# Altium footprint library PCB1.PcbLib: 55 footprints (part 3 of 4)
Each footprint in its own frame and in the unit in brackets; x right, y up, seen from the top. Pads: shape width x height; smd on the part's side, far side on the other; paste and mask are expansions set on the pad; w line width, h text height; cw(c..) or ccw(c..) is an arc to the next point about the centre after c.
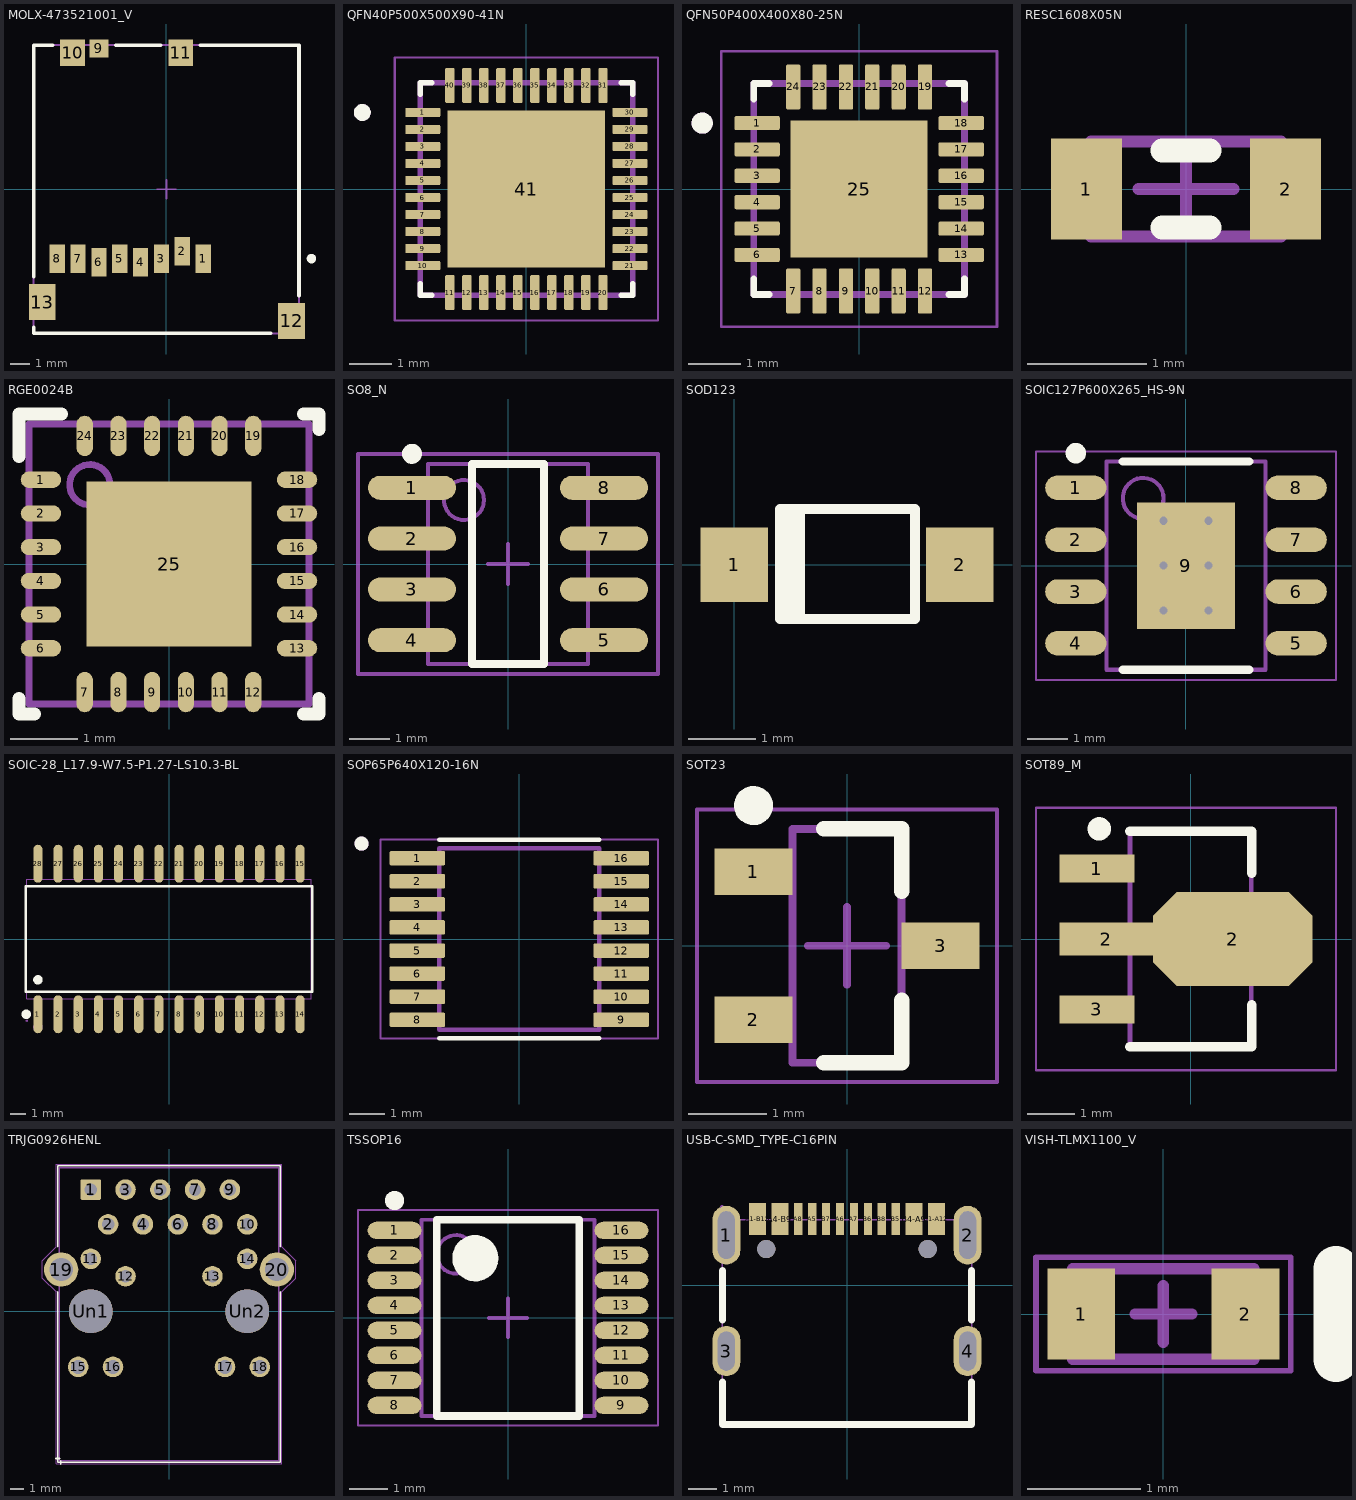
[diagram p2: the footprints below, top view; thin cyan lines are the x and y axes]

## MOLX-473521001_V [mm] "SMD, 8-Leads, Body 15.2x14mm, Pitch 1.1mm"
height 1.88
pads (13):
  rect 0.8x1.5 smd: 1(1.94,-3.66) 2(0.84,-3.26) 3(-0.26,-3.66) 4(-1.36,-3.86) 5(-2.46,-3.66) 6(-3.56,-3.86) 7(-4.66,-3.66) 8(-5.76,-3.66)
  rect 1x0.95 smd: 9(-3.56,7.425)
  rect 1.3x1.4 smd: 10(-4.95,7.2) 11(0.75,7.2)
  rect 1.4x1.9 smd: 12(6.6,-6.95) 13(-6.55,-5.95)
Top Overlay:
  circle w0.25: c7.65,-3.66 r0.125
  lines w0.2: -7,-7.3 -7,-7.6 5.5,-7.6 ; -7,-4.6 -7,7.6 -6,7.6 ; -2.66,7.6 -0.3,7.6 ; 1.8,7.6 7,7.6 7,-5.6
Mechanical 13:
  lines w0.1: -7,-7.6 -7,7.6 7,7.6 7,-7.6 -7,-7.6
Mechanical 15:
  lines w0.1: -0.5,0 0.5,0 ; 0,-0.5 0,0.5
3D body "473521001.stp": height 1.85, standoff -0.03, extent -7.05,-7.6 7.05,7.6

## QFN40P500X500X90-41N [mm]
height 0.9
pads (41):
  rrect25% 0.82x0.22 smd mask+0.05: 1(-2.435,1.8) 2(-2.435,1.4) 3(-2.435,1) 4(-2.435,0.6) 5(-2.435,0.2) 6(-2.435,-0.2) 7(-2.435,-0.6) 8(-2.435,-1) 9(-2.435,-1.4) 10(-2.435,-1.8) 21(2.435,-1.8) 22(2.435,-1.4) 23(2.435,-1) 24(2.435,-0.6) 25(2.435,-0.2) 26(2.435,0.2) 27(2.435,0.6) 28(2.435,1) 29(2.435,1.4) 30(2.435,1.8)
  rrect25% 0.22x0.82 smd mask+0.05: 11(-1.8,-2.435) 12(-1.4,-2.435) 13(-1,-2.435) 14(-0.6,-2.435) 15(-0.2,-2.435) 16(0.2,-2.435) 17(0.6,-2.435) 18(1,-2.435) 19(1.4,-2.435) 20(1.8,-2.435) 31(1.8,2.435) 32(1.4,2.435) 33(1,2.435) 34(0.6,2.435) 35(0.2,2.435) 36(-0.2,2.435) 37(-0.6,2.435) 38(-1,2.435) 39(-1.4,2.435) 40(-1.8,2.435)
  rect 3.7x3.7 smd paste-3 mask+0.05: 41(0,0)
Top Overlay:
  circle w0.2: c-3.86,1.8 r0.1
  lines w0.127: -2.5,-2.23 -2.5,-2.5 -2.23,-2.5 ; -2.5,2.23 -2.5,2.5 -2.23,2.5 ; 2.23,-2.5 2.5,-2.5 2.5,-2.23 ; 2.23,2.5 2.5,2.5 2.5,2.23
Top Paste:
  region: 1.395,-1.395 0.225,-1.395 0.225,-0.225 1.395,-0.225
  region: -0.225,-1.395 -1.395,-1.395 -1.395,-0.225 -0.225,-0.225
  region: 1.395,0.225 0.225,0.225 0.225,1.395 1.395,1.395
  region: -0.225,0.225 -1.395,0.225 -1.395,1.395 -0.225,1.395
Mechanical 13:
  circle w0.2: c-3.86,1.8 r0.1
  lines w0.127: -2.5,-2.5 2.5,-2.5 2.5,2.5 -2.5,2.5 -2.5,-2.5
Mechanical 15:
  lines w0.05: -3.095,-3.095 3.095,-3.095 3.095,3.095 -3.095,3.095 -3.095,-3.095

## QFN50P400X400X80-25N [mm]
height 2.54
pads (25):
  rrect25% 0.86x0.27 smd: 1(-1.935,1.25) 2(-1.935,0.75) 3(-1.935,0.25) 4(-1.935,-0.25) 5(-1.935,-0.75) 6(-1.935,-1.25) 13(1.935,-1.25) 14(1.935,-0.75) 15(1.935,-0.25) 16(1.935,0.25) 17(1.935,0.75) 18(1.935,1.25)
  rrect25% 0.27x0.86 smd: 7(-1.25,-1.935) 8(-0.75,-1.935) 9(-0.25,-1.935) 10(0.25,-1.935) 11(0.75,-1.935) 12(1.25,-1.935) 19(1.25,1.935) 20(0.75,1.935) 21(0.25,1.935) 22(-0.25,1.935) 23(-0.75,1.935) 24(-1.25,1.935)
  rect 2.6x2.6 smd paste-2: 25(0,0)
Top Overlay:
  circle w0.2: c-2.975,1.25 r0.1
  lines w0.127: -2,-1.705 -2,-2 -1.705,-2 ; -2,1.705 -2,2 -1.705,2 ; 1.705,-2 2,-2 2,-1.705 ; 1.705,2 2,2 2,1.705
Top Paste:
  region: 0.82,-0.82 -0.82,-0.82 -0.82,0.82 0.82,0.82
Mechanical 13:
  circle w0.2: c-2.975,1.25 r0.1
  lines w0.127: -2,-2 2,-2 2,2 -2,2 -2,-2
Mechanical 15:
  lines w0.05: -2.615,-2.615 2.615,-2.615 2.615,2.615 -2.615,2.615 -2.615,-2.615
3D body "step_temp.STEP": height 0.8, standoff 0, extent -2,-2 2,2

## RESC1608X05N [mm] "Chip Resistor, 2-Leads, Body 1.60x0.80mm, IPC Medium Density"
height 0.5
pads (2):
  rect 0.6x0.85 smd: 1(-0.838,0) 2(0.838,0)
Top Overlay:
  lines w0.2: -0.2,-0.325 0.2,-0.325 ; -0.2,0.325 0.2,0.325
Mechanical 13:
  lines w0.1: -0.8,-0.4 -0.8,0.4 0.8,0.4 0.8,-0.4 -0.8,-0.4
Mechanical 15:
  lines w0.1: -0.4,0 0.4,0 ; 0,-0.4 0,0.4
3D body "RESC1608X05N.step": height 0.5, standoff 0, extent -0.8,-0.4 0.8,0.4

## RGE0024B [mm]
pads (25):
  oval 0.6x0.24 smd paste+0 mask+0.051: 1(-1.9,1.25) 2(-1.9,0.75) 3(-1.9,0.25) 4(-1.9,-0.25) 5(-1.9,-0.75) 6(-1.9,-1.25) 13(1.9,-1.25) 14(1.9,-0.75) 15(1.9,-0.25) 16(1.9,0.25) 17(1.9,0.75) 18(1.9,1.25)
  oval 0.24x0.6 smd paste+0 mask+0.051: 7(-1.25,-1.9) 8(-0.75,-1.9) 9(-0.25,-1.9) 10(0.25,-1.9) 11(0.75,-1.9) 12(1.25,-1.9) 19(1.25,1.9) 20(0.75,1.9) 21(0.25,1.9) 22(-0.25,1.9) 23(-0.75,1.9) 24(-1.25,1.9)
  rect 2.45x2.45 smd paste-1.225 mask+0.051: 25(0,0)
Top Overlay:
  lines w0.2: -2.225,-2 -2.225,-2.225 -2,-2.225 ; -2.225,1.6 -2.225,2.225 -1.6,2.225 ; 2,-2.225 2.225,-2.225 2.225,-2 ; 2,2.225 2.225,2.225 2.225,2
Top Paste:
  region: 0.1,1.184 0.1,0.1 1.184,0.1 1.184,1.184
  region: -0.1,0.1 -0.1,1.184 -1.184,1.184 -1.184,0.1
  region: -0.1,-1.184 -0.1,-0.1 -1.184,-0.1 -1.184,-1.184
  region: 0.1,-0.1 0.1,-1.184 1.184,-1.184 1.184,-0.1
Mechanical 13:
  circle w0.1: c-1.175,1.175 r0.3
  lines w0.1: -2.075,-2.075 -2.075,2.075 2.075,2.075 2.075,-2.075 -2.075,-2.075
  text ".Designator" at -1.854,-1.143 h1.27

## SO8_N [mm] "SOIC, 8-Leads, Body 4.9x3.9mm, Pitch 1.27mm, IPC Medium Density"
height 1.75
pads (8):
  oval 2.2x0.6 smd: 1(-2.4,1.905) 2(-2.4,0.635) 3(-2.4,-0.635) 4(-2.4,-1.905) 5(2.4,-1.905) 6(2.4,-0.635) 7(2.4,0.635) 8(2.4,1.905)
Top Overlay:
  circle w0.25: c-2.4,2.755 r0.125
  lines w0.2: -0.9,-2.5 -0.9,2.5 0.9,2.5 0.9,-2.5 -0.9,-2.5
Mechanical 13:
  circle w0.1: c-1.1,1.6 r0.5
  lines w0.1: -2,-2.5 -2,2.5 2,2.5 2,-2.5 -2,-2.5
Mechanical 15:
  lines w0.1: -0.5,0 0.5,0 ; 0,-0.5 0,0.5 ; -3.75,-2.75 -3.75,2.75 3.75,2.75 3.75,-2.75 -3.75,-2.75
3D body: height 1.75, standoff 0, extent -2,-2.5 2,2.5

## SOD123 [mm]
height 2.54
pads (2):
  rect 1x1.1 smd: 1(0,0) 2(3.34,0)
Top Overlay:
  lines w0.15: 0.726,-0.725 0.776,-0.725 ; 0.776,0.775 0.776,-0.625 0.851,-0.7 0.851,0.75 ; 0.976,-0.775 0.976,0.8 ; 0.676,-0.8 2.676,-0.8 2.676,0.825 0.676,0.825 0.676,-0.8
3D body "User Library-SOD-123.step": height 1.25, standoff 0, extent -0.178,-0.787 3.52,0.813

## SOIC127P600X265_HS-9N [mm] "SOIC, 8-Leads, Body 5.00x3.90mm, Pitch 1.27mm, Thermal Pad 3.10x2.40mm, IPC Medium Density"
height 2.65
pads (9):
  oval 1.5x0.6 smd: 1(-2.7,1.905) 2(-2.7,0.635) 3(-2.7,-0.635) 4(-2.7,-1.905) 5(2.7,-1.905) 6(2.7,-0.635) 7(2.7,0.635) 8(2.7,1.905)
  rect 2.4x3.1 smd: 9(0,0)
via 0.55,-1.1 diameter 0.5 hole 0.2
via -0.55,-1.1 diameter 0.5 hole 0.2
via 0.55,0 diameter 0.5 hole 0.2
via -0.55,0 diameter 0.5 hole 0.2
via 0.55,1.1 diameter 0.5 hole 0.2
via -0.55,1.1 diameter 0.5 hole 0.2
Top Overlay:
  circle w0.25: c-2.7,2.755 r0.125
  lines w0.2: -1.55,-2.55 1.55,-2.55 ; -1.55,2.55 1.55,2.55
Mechanical 13:
  circle w0.1: c-1.05,1.65 r0.5
  lines w0.1: -1.95,-2.55 1.95,-2.55 1.95,2.55 -1.95,2.55 -1.95,-2.55
Mechanical 15:
  lines w0.05: -3.675,-2.8 3.675,-2.8 3.675,2.8 -3.675,2.8 -3.675,-2.8
  lines w0.1: -0.5,0 0.5,0 ; 0,-0.5 0,0.5
3D body "SOIC127P600X265_HS-9N.step": height 2.65, standoff 0, extent -3,-2.55 3,2.55

## SOIC-28_L17.9-W7.5-P1.27-LS10.3-BL [mm]
pads (28):
  oval 0.574x2.388 smd: 1(-8.255,-4.744) 2(-6.985,-4.744) 3(-5.715,-4.744) 4(-4.445,-4.744) 5(-3.175,-4.744) 6(-1.905,-4.744) 7(-0.635,-4.744) 8(0.635,-4.744) 9(1.905,-4.744) 10(3.175,-4.744) 11(4.445,-4.744) 12(5.715,-4.744) 13(6.985,-4.744) 14(8.255,-4.744) 15(8.255,4.744) 16(6.985,4.744) 17(5.715,4.744) 18(4.445,4.744) 19(3.175,4.744) 20(1.905,4.744) 21(0.635,4.744) 22(-0.635,4.744) 23(-1.905,4.744) 24(-3.175,4.744) 25(-4.445,4.744) 26(-5.715,4.744) 27(-6.985,4.744) 28(-8.255,4.744)
Top Overlay:
  circle w0.3: c-8.255,-2.569 r0.15
  circle w0.3: c-8.994,-4.744 r0.15
  lines w0.152: -9.026,-3.321 -9.026,3.321 9.026,3.321 9.026,-3.321 -9.026,-3.321
Bottom Designator:
  circle w0.3: c-8.255,-5.55 r0.15
Mechanical 15:
  drawing of 61 lines, arcs and shapes, not listed

## SOP65P640X120-16N [mm]
pads (16):
  rrect25% 1.57x0.41 smd: 1(-2.87,2.275) 2(-2.87,1.625) 3(-2.87,0.975) 4(-2.87,0.325) 5(-2.87,-0.325) 6(-2.87,-0.975) 7(-2.87,-1.625) 8(-2.87,-2.275) 9(2.87,-2.275) 10(2.87,-1.625) 11(2.87,-0.975) 12(2.87,-0.325) 13(2.87,0.325) 14(2.87,0.975) 15(2.87,1.625) 16(2.87,2.275)
Top Overlay:
  circle w0.2: c-4.44,2.685 r0.1
  lines w0.127: -2.25,-2.8 2.25,-2.8 ; -2.25,2.8 2.25,2.8
Mechanical 13:
  circle w0.2: c-4.44,2.685 r0.1
  lines w0.127: -2.25,-2.55 2.25,-2.55 2.25,2.55 -2.25,2.55 -2.25,-2.55
Mechanical 15:
  lines w0.05: -3.905,-2.8 3.905,-2.8 3.905,2.8 -3.905,2.8 -3.905,-2.8
3D body "step_temp.STEP": height 0.6, standoff -0.6, extent -2.5,-3.2 2.5,3.2

## SOT23 [mm] "SOT23, 3-Leads, Body 2.90x2.45mm, Pitch 0.95mm, IPC Medium Density"
height 1.1
pads (3):
  rect 1x0.6 smd: 1(-1.2,0.95) 2(-1.2,-0.95) 3(1.2,0)
Top Overlay:
  circle w0.25: c-1.2,1.8 r0.125
  lines w0.2: -0.3,-1.5 0.7,-1.5 0.7,-0.7 ; -0.3,1.5 0.7,1.5 0.7,0.7
Mechanical 13:
  lines w0.1: -0.7,-1.5 0.7,-1.5 0.7,1.5 -0.7,1.5 -0.7,-1.5
Mechanical 15:
  lines w0.05: -1.925,-1.75 1.925,-1.75 1.925,1.75 -1.925,1.75 -1.925,-1.75
  lines w0.1: -0.5,0 0.5,0 ; 0,-0.5 0,0.5
3D body: height 1.1, standoff 0.05, extent -0.7,-1.5 0.7,1.5

## SOT89_M [mm] "SOT89, 3-Leads, Body 4.5x2.4 mm, Pitch 1.5mm, Lead Span 4.1mm, IPC Low Density"
height 1.61
pads (4):
  rect 1.6x0.6 smd: 1(-2,1.5) 3(-2,-1.5)
  rect 2x0.7 smd: 2(-1.8,0)
  oct 3.4x2 smd: 2(0.9,0)
Top Overlay:
  circle w0.25: c-1.95,2.35 r0.125
  lines w0.2: -1.3,-2.3 1.3,-2.3 1.3,-1.4 ; -1.3,2.3 1.3,2.3 1.3,1.4
Mechanical 13:
  lines w0.1: -1.295,-2.3 1.295,-2.3 1.295,2.3 -1.295,2.3 -1.295,-2.3
Mechanical 15:
  lines w0.05: -3.3,-2.8 3.1,-2.8 3.1,2.8 -3.3,2.8 -3.3,-2.8
  lines w0.1: -0.5,0 0.5,0 ; 0,-0.5 0,0.5
3D body: height 1.6, standoff 0, extent -1.295,-2.3 1.295,2.3

## TRJG0926HENL [mm]
pads (22):
  rrect17% 1.5x1.5 hole 0.9 paste-1.5: 1(-5.715,8.89)
  round 1.5 hole 0.9 paste-1.5: 2(-4.445,6.35) 3(-3.175,8.89) 4(-1.905,6.35) 5(-0.635,8.89) 6(0.635,6.35) 7(1.905,8.89) 8(3.175,6.35) 9(4.445,8.89) 10(5.715,6.35) 11(-5.715,3.83) 12(-3.175,2.56) 13(3.175,2.56) 14(5.715,3.83)
  round 1.5 hole 1.02 paste-1.5: 15(-6.63,-4.06) 16(-4.09,-4.06) 17(4.09,-4.06) 18(6.63,-4.06)
  round 2.5 hole 1.7 paste-2.5: 19(-7.875,3.05) 20(7.875,3.05)
  round 3.2 hole 3.2 paste-3.2: Un1(-5.715,0) Un2(5.715,0)
Top Overlay:
  lines w0.12: -8.25,-10.75 -8,-10.75 ; -8.12,1.43 -8.12,-11.02 8.12,-11.02 8.12,1.43 ; -8.12,4.71 -8.12,10.62 8.12,10.62 8.12,4.71 ; -7.9,-11.15 -7.9,-10.9
Top Designator:
  lines w0.05: -8.25,10.75 8.25,10.75 8.25,4.71 9.25,3.71 9.25,2.43 8.25,1.43 8.25,-11.15 -8.25,-11.15 -8.25,1.43 -9.25,2.43 -9.25,3.71 -8.25,4.71 -8.25,10.76
Bottom Designator:
  lines w0.1: -8,0 -8,10.5 8,10.5 8,-10.9 -8,-10.9 -8,5.37
  text "${REFERENCE}" at -1.762,-0.389 h1

## TSSOP16 [mm] "TSOP, 16-Leads, Body 5.00x4.40mm, Pitch 0.65mm, IPC Medium Density"
height 1.5
pads (16):
  oval 1.4x0.45 smd: 1(-2.95,2.275) 2(-2.95,1.625) 3(-2.95,0.975) 4(-2.95,0.325) 5(-2.95,-0.325) 6(-2.95,-0.975) 7(-2.95,-1.625) 8(-2.95,-2.275) 9(2.95,-2.275) 10(2.95,-1.625) 11(2.95,-0.975) 12(2.95,-0.325) 13(2.95,0.325) 14(2.95,0.975) 15(2.95,1.625) 16(2.95,2.275)
Top Overlay:
  circle w0.6: c-0.85,1.55 r0.3
  circle w0.25: c-2.95,3.05 r0.125
  lines w0.2: -1.85,-2.55 1.85,-2.55 1.85,2.55 -1.85,2.55 -1.85,-2.55
Mechanical 13:
  circle w0.1: c-1.35,1.65 r0.5
  lines w0.1: -2.25,-2.55 2.25,-2.55 2.25,2.55 -2.25,2.55 -2.25,-2.55
Mechanical 15:
  lines w0.05: -3.9,-2.8 3.9,-2.8 3.9,2.8 -3.9,2.8 -3.9,-2.8
  lines w0.1: -0.5,0 0.5,0 ; 0,-0.5 0,0.5
3D body "TSOP65P640X150-16N.step": height 1.5, standoff 0, extent -3.2,-2.55 3.2,2.55

## USB-C-SMD_TYPE-C16PIN [mm]
height 2.54
pads (18):
  oval 1x2.1 hole 0.6 slot 1.7 at 90 deg: 1(-4.32,1.787) 2(4.32,1.787)
  oval 1x1.8 hole 0.6 slot 1.4 at 90 deg: 3(-4.32,-2.362) 4(4.32,-2.362)
  rect 0.6x1.15 smd paste-100 mask+0.051: A1-B12(-3.2,2.362) A4-B9(-2.4,2.362) B1-A12(3.2,2.362) B4-A9(2.4,2.362)
  rect 0.3x1.15 smd paste-100 mask+0.051: A5(-1.25,2.362) A6(-0.25,2.362) A7(0.25,2.362) A8(-1.75,2.362) B5(1.75,2.362) B6(0.75,2.362) B7(-0.75,2.362) B8(1.25,2.362)
  round 0.65 hole 0.65 unplated paste-1000 mask+0: ""(-2.89,1.287) ""(2.89,1.287)
Top Overlay:
  lines w0.254: -4.45,-3.482 -4.45,-5 4.45,-5 4.45,-3.482 ; -4.45,-1.243 -4.45,0.518 ; 4.45,-1.243 4.45,0.518
Top Paste:
  region: -3.5,2.937 -2.9,2.937 -2.9,1.787 -3.5,1.787
  region: -2.7,2.937 -2.1,2.937 -2.1,1.787 -2.7,1.787
  region: 2.9,2.937 3.5,2.937 3.5,1.787 2.9,1.787
  region: 2.1,2.937 2.7,2.937 2.7,1.787 2.1,1.787
  region: 1.6,2.937 1.9,2.937 1.9,1.787 1.6,1.787
  region: 1.1,2.937 1.4,2.937 1.4,1.787 1.1,1.787
  region: 0.6,2.937 0.9,2.937 0.9,1.787 0.6,1.787
  region: 0.1,2.937 0.4,2.937 0.4,1.787 0.1,1.787
  region: -0.4,2.937 -0.1,2.937 -0.1,1.787 -0.4,1.787
  region: -0.9,2.937 -0.6,2.937 -0.6,1.787 -0.9,1.787
  region: -1.4,2.937 -1.1,2.937 -1.1,1.787 -1.4,1.787
  region: -1.9,2.937 -1.6,2.937 -1.6,1.787 -1.9,1.787
  region: 3.82,-1.962 3.82,-1.863 3.896,-1.679 4.037,-1.539 4.221,-1.462 4.419,-1.462 4.603,-1.539 4.744,-1.679 4.82,-1.863 4.82,-1.962 4.82,-2.762 4.82,-2.862 4.744,-3.046 4.603,-3.186 4.419,-3.262 4.221,-3.262 4.037,-3.186 3.896,-3.046 3.82,-2.862 3.82,-2.762
  region: -4.82,-1.962 -4.82,-1.863 -4.744,-1.679 -4.603,-1.539 -4.419,-1.462 -4.221,-1.462 -4.037,-1.539 -3.896,-1.679 -3.82,-1.863 -3.82,-1.962 -3.82,-2.762 -3.82,-2.862 -3.896,-3.046 -4.037,-3.186 -4.221,-3.262 -4.419,-3.262 -4.603,-3.186 -4.744,-3.046 -4.82,-2.862 -4.82,-2.762
  region: 3.82,2.337 3.82,2.437 3.896,2.621 4.037,2.761 4.221,2.837 4.419,2.837 4.603,2.761 4.744,2.621 4.82,2.437 4.82,2.337 4.82,1.237 4.82,1.138 4.744,0.954 4.603,0.814 4.419,0.737 4.221,0.737 4.037,0.814 3.896,0.954 3.82,1.138 3.82,1.237
  region: -4.82,2.337 -4.82,2.437 -4.744,2.621 -4.603,2.761 -4.419,2.837 -4.221,2.837 -4.037,2.761 -3.896,2.621 -3.82,2.437 -3.82,2.337 -3.82,1.237 -3.82,1.138 -3.896,0.954 -4.037,0.814 -4.221,0.737 -4.419,0.737 -4.603,0.814 -4.744,0.954 -4.82,1.138 -4.82,1.237
Mechanical 15:
  region: -3.4,2.802 -3,2.802 -3,2.102 -3.4,2.102
  region: -2.6,2.802 -2.2,2.802 -2.2,2.102 -2.6,2.102
  region: 2.2,2.802 2.6,2.802 2.6,2.102 2.2,2.102
  region: 3,2.802 3.4,2.802 3.4,2.102 3,2.102
  region: -1.35,2.802 -1.15,2.802 -1.15,2.102 -1.35,2.102
  region: -0.85,2.802 -0.65,2.802 -0.65,2.102 -0.85,2.102
  region: -0.35,2.802 -0.15,2.802 -0.15,2.102 -0.35,2.102
  region: 0.15,2.802 0.35,2.802 0.35,2.102 0.15,2.102
  region: 0.65,2.802 0.85,2.802 0.85,2.102 0.65,2.102
  region: 1.15,2.802 1.35,2.802 1.35,2.102 1.15,2.102
  region: 1.65,2.802 1.85,2.802 1.85,2.102 1.65,2.102
  region: -4.47,2.337 -4.17,2.337 -4.17,1.237 -4.47,1.237
  region: 4.17,2.337 4.47,2.337 4.47,1.237 4.17,1.237
  region: 4.17,-1.962 4.47,-1.962 4.47,-2.762 4.17,-2.762
  region: -4.47,-1.962 -4.17,-1.962 -4.17,-2.762 -4.47,-2.762
  region: -1.85,2.803 -1.65,2.803 -1.65,2.103 -1.85,2.103
  region: -4.41,2.803 -4.41,2.827 -4.445,2.863 -4.495,2.863 -4.53,2.827 -4.53,2.803 -4.53,2.778 -4.495,2.743 -4.445,2.743 -4.41,2.778
  lines w0.051: -4.47,-5.012 -4.47,2.338 4.47,2.338 4.47,-5.012 -4.47,-5.012

## VISH-TLMX1100_V [mm] "SMD, 2-Leads, Body 1.6x0.8mm"
height 0.65
pads (2):
  rect 0.6x0.8 smd: 1(-0.725,0) 2(0.725,0)
Top Overlay:
  lines w0.4: 1.525,-0.4 1.525,0.4
Mechanical 13:
  lines w0.1: -0.8,-0.4 -0.8,0.4 0.8,0.4 0.8,-0.4 -0.8,-0.4
Mechanical 15:
  lines w0.05: -1.125,-0.5 1.125,-0.5 1.125,0.5 -1.125,0.5 -1.125,-0.5
  lines w0.1: -0.25,0 0.25,0 ; 0,-0.25 0,0.25
3D body: height 0.65, standoff 0, extent -0.8,-0.4 0.8,0.4